# EAGLE library part MICS-SMD20 (library con-lumberg)
CONNECTOR
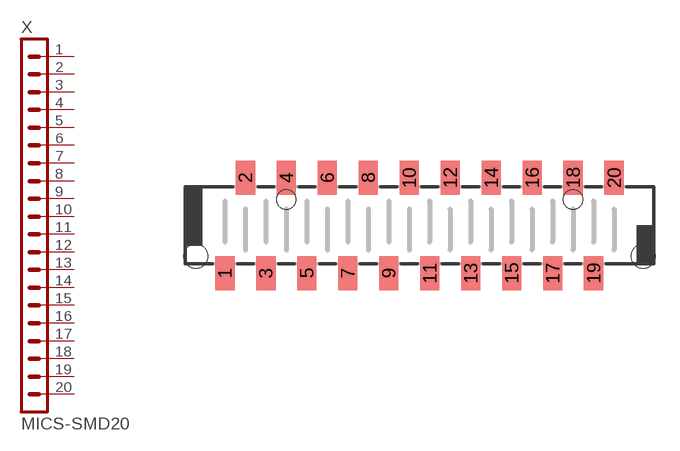
[diagram p17: symbol with the pads of MICSMD20; footprint MICSMD20]

Designator prefix X

## MICS-SMD20 (OC_FARNELL: unknown; OC_NEWARK: unknown)  [MICSMD20]
1  1  pas
2  2  pas
3  3  pas
4  4  pas
5  5  pas
6  6  pas
7  7  pas
8  8  pas
9  9  pas
10  10  pas
11  11  pas
12  12  pas
13  13  pas
14  14  pas
15  15  pas
16  16  pas
17  17  pas
18  18  pas
19  19  pas
20  20  pas

## Footprint MICSMD20 (pad centres in mm)
CONNECTOR
smd 1.2 x 2.1: 1 -12.065,-2.959; 2 -10.795,2.959; 3 -9.525,-2.959; 4 -8.255,2.959; 5 -6.985,-2.959; 6 -5.715,2.959; 7 -4.445,-2.959; 8 -3.175,2.959; 9 -1.905,-2.959; 10 -0.635,2.959; 11 0.635,-2.959; 12 1.905,2.959; 13 3.175,-2.959; 14 4.445,2.959; 15 5.715,-2.959; 16 6.985,2.959; 17 8.255,-2.959; 18 9.525,2.959; 19 10.795,-2.959; 20 12.065,2.959
hole 1.5 at 13.865,-1.912
hole 1.5 at -13.865,-1.912
hole 1.2 at -8.255,1.6
hole 1.2 at 9.525,1.6